# Altium footprint library FPGA Interface Board.PcbLib: 23 footprints (part 2 of 2)
Each footprint in its own frame and in the unit in brackets; x right, y up, seen from the top. Pads: shape width x height; smd on the part's side, far side on the other; paste and mask are expansions set on the pad; w line width, h text height; cw(c..) or ccw(c..) is an arc to the next point about the centre after c.
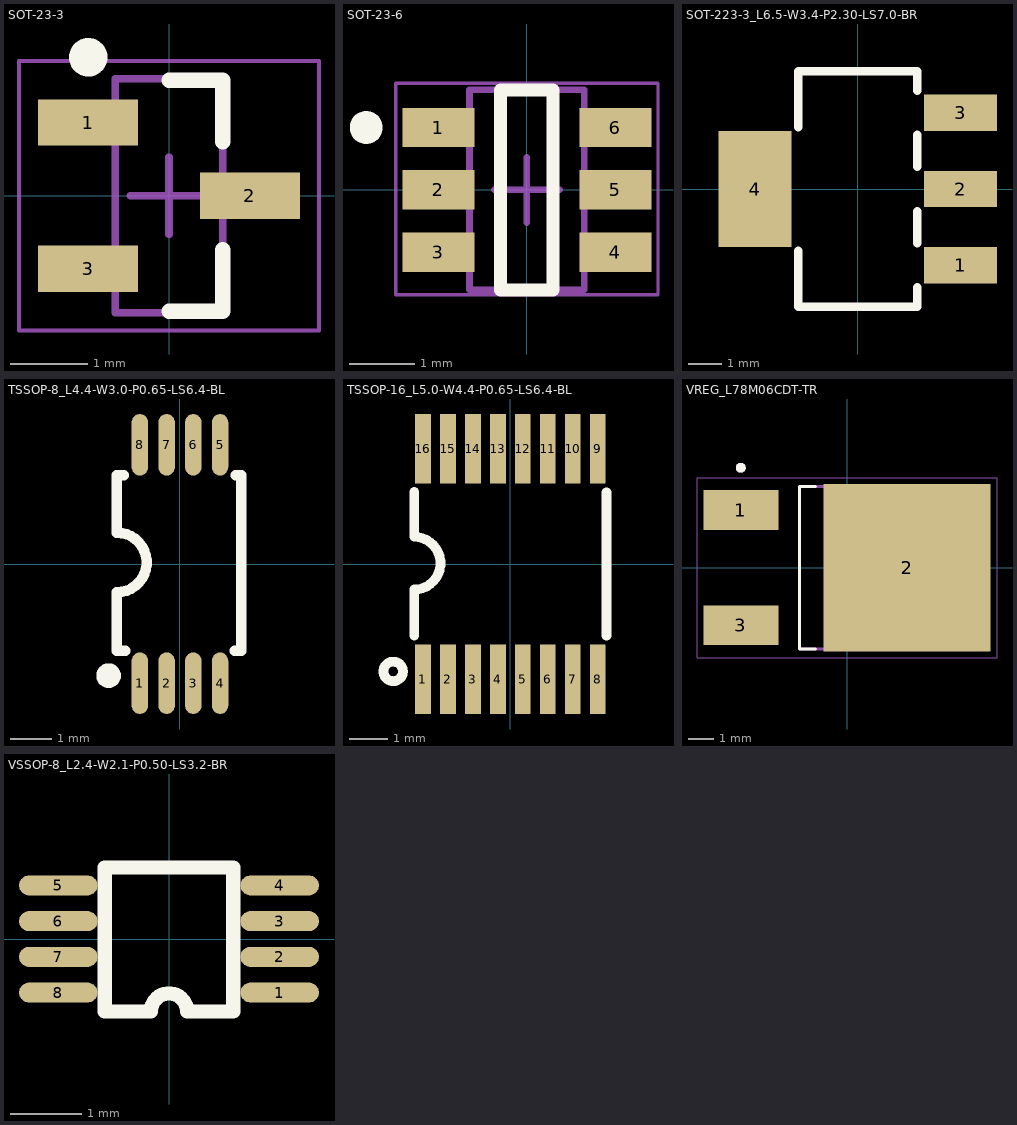
[diagram p1: the footprints below, top view; thin cyan lines are the x and y axes]

## SOT-23-3 [mm]
pads (3):
  rect 1.3x0.6 smd: 1(-1.05,0.95) 2(1.05,0) 3(-1.05,-0.95)
Top Overlay:
  circle w0.25: c-1.05,1.8 r0.125
  lines w0.2: 0,-1.5 0.7,-1.5 0.7,-0.7 ; 0,1.5 0.7,1.5 0.7,0.7
Mechanical 13:
  lines w0.1: -0.7,-1.52 -0.7,1.52 0.7,1.52 0.7,-1.52 -0.7,-1.52
Mechanical 15:
  lines w0.05: -1.95,-1.75 -1.95,1.75 1.95,1.75 1.95,-1.75 -1.95,-1.75
  lines w0.1: -0.5,0 0.5,0 ; 0,-0.5 0,0.5
3D body "sot-23-3.STEP": height 1.5, standoff 0, extent -1.42,-1.46 1.401,1.44

## SOT-23-6 [mm]
pads (6):
  rect 1.1x0.6 smd mask+0.07: 1(-1.35,0.95) 2(-1.35,0) 3(-1.35,-0.95) 4(1.35,-0.95) 5(1.35,0) 6(1.35,0.95)
Top Overlay:
  circle w0.25: c-2.45,0.95 r0.125
  lines w0.2: -0.4,-1.525 0.4,-1.525 0.4,1.525 -0.4,1.525 -0.4,-1.525
Mechanical 13:
  lines w0.1: -0.875,-1.525 0.875,-1.525 0.875,1.525 -0.875,1.525 -0.875,-1.525
Mechanical 15:
  lines w0.05: -2,-1.6 -2,1.625 2,1.625 2,-1.6 -2,-1.6
  lines w0.1: -0.5,0 0.5,0 ; 0,-0.5 0,0.5
3D body "User Library-SOT23-6-2.step": height 1.45, standoff 0, extent -1.4,-1.45 1.4,1.45

## SOT-223-3_L6.5-W3.4-P2.30-LS7.0-BR [mm]
pads (4):
  rect 2.2x1.1 smd: 1(3.099,-2.3) 2(3.099,0) 3(3.099,2.3)
  rect 2.2x3.5 smd: 4(-3.099,0)
Top Overlay:
  lines w0.254: -1.8,-1.865 -1.8,-3.55 1.8,-3.55 1.8,-2.965 ; -1.8,1.865 -1.8,3.55 1.8,3.55 1.8,2.965 ; 1.8,-1.635 1.8,-0.665 ; 1.8,0.665 1.8,1.635
3D body "SOT-223.STEP": height 1.8, standoff 0, extent -3.5,-3.25 3.516,3.25

## TSSOP-8_L4.4-W3.0-P0.65-LS6.4-BL [mm]
pads (8):
  oval 0.4x1.497 smd: 1(-0.975,-2.9) 2(-0.325,-2.9) 3(0.325,-2.9) 4(0.975,-2.9) 5(0.975,2.9) 6(0.325,2.9) 7(-0.325,2.9) 8(-0.975,2.9)
Top Overlay:
  lines w0.254: -1.534,-2.108 -1.534,-0.711 ; -1.534,-0.686 ccw(c-1.534,0.038) -1.534,0.762 -1.534,2.159 -1.362,2.159 ; -1.509,-2.108 -1.332,-2.108 ; 1.332,-2.108 1.488,-2.108 1.488,2.159 1.362,2.159
  lines w0.3: -1.737,-2.565 ccw(c-1.736,-2.715) -1.735,-2.565
3D body "CDCV304PWR.step": height 1.2, standoff 0, extent -1.549,-3.302 1.549,3.302

## TSSOP-16_L5.0-W4.4-P0.65-LS6.4-BL [mil]
pads (16):
  rect 16x71 smd: 1(-89.57,-118.11) 2(-63.98,-118.11) 3(-38.39,-118.11) 4(-12.79,-118.11) 5(12.79,-118.11) 6(38.39,-118.11) 7(63.98,-118.11) 8(89.57,-118.11) 9(89.57,118.11) 10(63.98,118.11) 11(38.39,118.11) 12(12.79,118.11) 13(-12.79,118.11) 14(-38.39,118.11) 15(-63.98,118.11) 16(-89.57,118.11)
Top Overlay:
  circle w10: c-120.07,-110 r10
  lines w10: -98.49,-73.23 -98.61,-26.21 ccw(c-98.61,0.79) -98.61,27.79 -98.49,74.02 ; 98.36,-73.56 98.36,73.56
3D body "TSSOP-16_4.4x5mm_P0.65mm.step": height 43.31, standoff 0, extent -98.43,-125.98 98.42,125.99

## VREG_L78M06CDT-TR [mm]
pads (3):
  rect 3x1.6 smd: 1(-4.25,2.3) 3(-4.25,-2.3)
  rect 6.7x6.7 smd paste-4: 2(2.4,0)
Top Overlay:
  circle w0.2: c-4.25,4 r0.1
  lines w0.127: -1.264,-3.25 -1.9,-3.25 -1.9,3.25 -1.264,3.25
Top Paste:
  region: 3.19,-0.79 1.61,-0.79 1.61,0.79 3.19,0.79
  region: 3.19,1.44 1.61,1.44 1.61,3.02 3.19,3.02
  region: 3.19,-3.02 1.61,-3.02 1.61,-1.44 3.19,-1.44
  region: 0.96,-0.79 -0.62,-0.79 -0.62,0.79 0.96,0.79
  region: 0.96,1.44 -0.62,1.44 -0.62,3.02 0.96,3.02
  region: 0.96,-3.02 -0.62,-3.02 -0.62,-1.44 0.96,-1.44
  region: 5.42,-0.79 3.84,-0.79 3.84,0.79 5.42,0.79
  region: 5.42,1.44 3.84,1.44 3.84,3.02 5.42,3.02
  region: 5.42,-3.02 3.84,-3.02 3.84,-1.44 5.42,-1.44
Mechanical 13:
  circle w0.2: c-4.25,4 r0.1
  lines w0.127: -1.9,-3.25 4.2,-3.25 4.2,3.25 -1.9,3.25 -1.9,-3.25
Mechanical 15:
  lines w0.05: -6,-3.6 -6,3.6 6,3.6 6,-3.6 -6,-3.6
3D body "TO-252-2.step": height 2.32, standoff 0, extent -4.63,-3.25 5.27,3.25

## VSSOP-8_L2.4-W2.1-P0.50-LS3.2-BR [mm]
pads (8):
  oval 1.1x0.28 smd mask+0.05: 1(1.55,-0.75) 2(1.55,-0.25) 3(1.55,0.25) 4(1.55,0.75) 5(-1.55,0.75) 6(-1.55,0.25) 7(-1.55,-0.25) 8(-1.55,-0.75)
Top Overlay:
  lines w0.2: -0.9,-1.016 -0.254,-1.016 cw(c0,-1.016) 0.254,-1.016 0.9,-1.016 ; -0.9,-1 -0.9,1 0.9,1 0.9,-1
3D body "SOT765-1_NEX.step": height 0.99, standoff 0, extent -1.6,-1.054 1.6,1.054